# EAGLE library part MAX3051ESA (library MAX3051ESA)
Can bus transciever Datasheet: http://datasheets.maximintegrated.com/en/ds/MAX3051.pdf
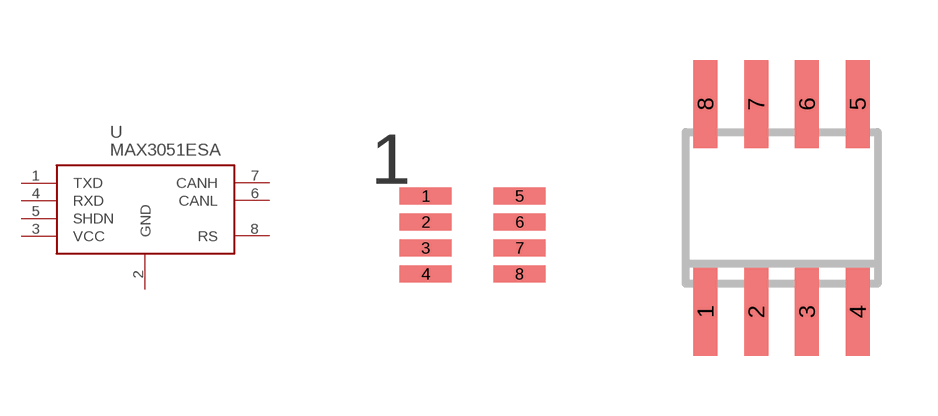
[diagram p0: symbol with the pads of 8-SOICN; footprints 8-SOICN, SO-08]

Designator prefix U

## MAX3051ESA (AVAILABILITY: Unavailable; DESCRIPTION: CAN 1Mbps Shutdown/Standby 3.3V Extended Industrial 8-Pin SOIC N; MF: Maxim Integrated; MP: MAX3051ESA+; PACKAGE: SOIC-8 Maxim Integrated; PRICE: None)  [8-SOICN]
1  TXD
2  GND
3  VCC
4  RXD
5  SHDN
6  CANL
7  CANH
8  RS

## MAX3051ESA+T  [SO-08]
Pads as for 8-SOICN

## Footprint 8-SOICN (pad centres in mm)
Can Bus Transceiver
smd 1.3 x 0.42: 1 -1.175,0.975; 2 -1.175,0.325; 3 -1.174,-0.325; 4 -1.175,-0.975; 5 1.175,0.975; 6 1.175,0.325; 7 1.174,-0.325; 8 1.175,-0.975

## Footprint SO-08 (pad centres in mm)
Small Outline Narrow Plastic Gull Wing 150-mil body, package type SN
smd 0.6 x 2.2: 1 -1.905,-2.6; 2 -0.635,-2.6; 3 0.635,-2.6; 4 1.905,-2.6; 5 1.905,2.6; 6 0.635,2.6; 7 -0.635,2.6; 8 -1.905,2.6